# EAGLE library part ADXL362 (library Moo1.2)
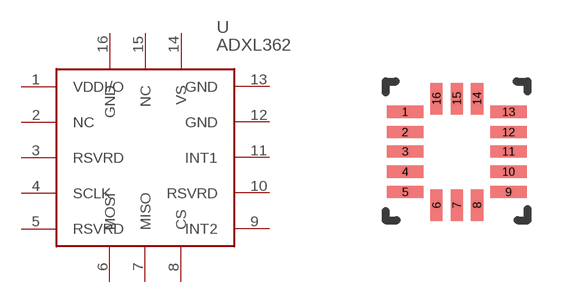
[diagram p8: symbol with the pads of 16-PIN_QFN_FOR_ADXL362_1PRIMARY; footprint 16-PIN_QFN_FOR_ADXL362_1PRIMARY]

Designator prefix -

## ADXL362  [16-PIN_QFN_FOR_ADXL362_1PRIMARY]
1  VDDI/O
2  NC
3  RSVRD
4  SCLK
5  RSVRD
6  MOSI
7  MISO
8  CS
9  INT2
10  RSVRD
11  INT1
12  GND
13  GND
14  VS
15  NC
16  GND

## Footprint 16-PIN_QFN_FOR_ADXL362_1PRIMARY (pad centres in mm)
Original name 16-pin_QFN_for_ADXL362
smd 0.914 x 0.305: 1 0,0; 2 0,-0.508; 3 0,-0.991; 4 0,-1.499; 5 0,-2.007; 9 2.591,-2.007; 10 2.591,-1.499; 11 2.591,-0.991; 12 2.591,-0.508; 13 2.591,0
smd 0.305 x 0.787: 6 0.787,-2.337; 7 1.295,-2.337; 8 1.803,-2.337; 14 1.803,0.33; 15 1.295,0.33; 16 0.787,0.33